# Altium footprint library capstonefootprintsREGS.PcbLib: 3 footprints
Each footprint in its own frame and in the unit in brackets; x right, y up, seen from the top. Pads: shape width x height; smd on the part's side, far side on the other; paste and mask are expansions set on the pad; w line width, h text height; cw(c..) or ccw(c..) is an arc to the next point about the centre after c.
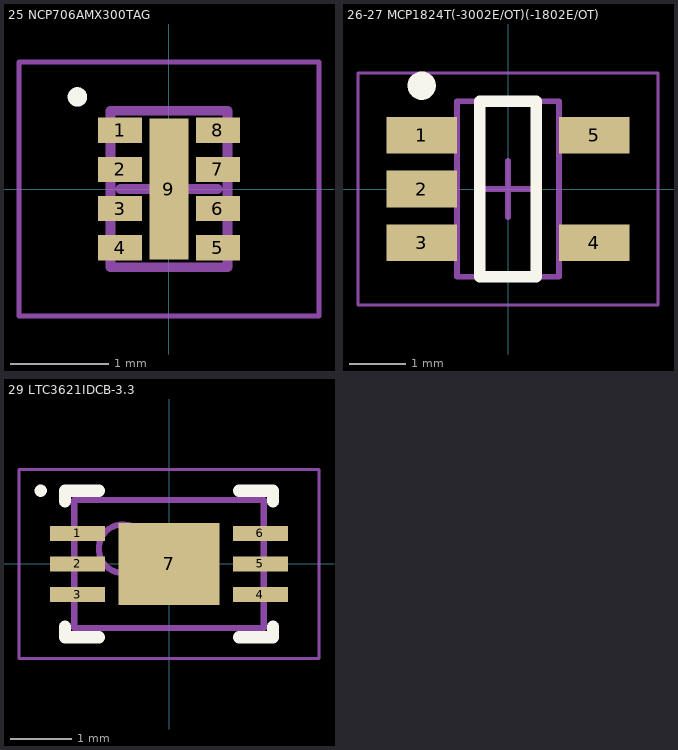
[diagram p0: the footprints below, top view; thin cyan lines are the x and y axes]

## 25 NCP706AMX300TAG [mm] "SON, 8-Leads, Body 1.60x1.20mm, Pitch 0.40mm, Thermal Pad 2.40x1.50mm, IPC Low Density"
height 0.45
pads (9):
  rect 0.45x0.26 smd mask+0.08: 1(-0.5,0.6) 2(-0.5,0.2) 3(-0.5,-0.2) 4(-0.5,-0.6) 5(0.5,-0.6) 6(0.5,-0.2) 7(0.5,0.2) 8(0.5,0.6)
  rect 0.4x1.44 smd: 9(0,0)
Top Overlay:
  circle w0.1: c-0.937,0.942 r0.05
Mechanical 13:
  lines w0.1: -0.6,-0.8 0.6,-0.8 0.6,0.8 -0.6,0.8 -0.6,-0.8
Mechanical 15:
  lines w0.05: -1.535,-1.3 1.535,-1.3 1.535,1.3 -1.535,1.3 -1.535,-1.3
  lines w0.1: -0.5,0 0.5,0 ; 0,-0.5 0,0.5
3D body: height 0.45, standoff 0, extent -0.6,-0.8 0.6,0.8

## 26-27 MCP1824T(-3002E/OT)(-1802E/OT) [mm] "SOT23, 5-Leads, Body 2.90x2.70mm, Pitch 0.95mm, IPC Low Density"
height 1.45
pads (5):
  rect 1.25x0.65 smd: 1(-1.525,0.95) 2(-1.525,0) 3(-1.525,-0.95) 4(1.525,-0.95) 5(1.525,0.95)
Top Overlay:
  circle w0.25: c-1.525,1.825 r0.125
  lines w0.2: -0.5,-1.55 0.5,-1.55 0.5,1.55 -0.5,1.55 -0.5,-1.55
Mechanical 13:
  lines w0.1: -0.9,-1.55 -0.9,1.55 0.9,1.55 0.9,-1.55 -0.9,-1.55
Mechanical 15:
  lines w0.05: -2.65,-2.05 -2.65,2.05 2.65,2.05 2.65,-2.05 -2.65,-2.05
  lines w0.1: -0.5,0 0.5,0 ; 0,-0.5 0,0.5
3D body: height 1.45, standoff 0, extent -0.9,-1.55 0.9,1.55

## 29 LTC3621IDCB-3.3 [mm] "SON, 6-Leads, Body 2.00x3.00mm, Pitch 0.50mm, Thermal Pad 1.35x1.65mm, IPC Low Density"
height 0.8
pads (7):
  rect 0.9x0.25 smd mask+0.1: 1(-1.495,0.5) 2(-1.495,0) 3(-1.495,-0.5) 4(1.495,-0.5) 5(1.495,0) 6(1.495,0.5)
  rect 1.65x1.35 smd: 7(0,0)
Top Overlay:
  circle w0.1: c-2.1,1.2 r0.05
  lines w0.2: -1.7,-1.025 -1.7,-1.2 -1.145,-1.2 ; -1.7,1.025 -1.7,1.2 -1.145,1.2 ; 1.145,-1.2 1.7,-1.2 1.7,-1.025 ; 1.145,1.2 1.7,1.2 1.7,1.025
Mechanical 13:
  circle w0.1: c-0.75,0.25 r0.4
  lines w0.1: -1.55,-1.05 1.55,-1.05 1.55,1.05 -1.55,1.05 -1.55,-1.05
Mechanical 15:
  lines w0.05: -2.455,-1.55 2.455,-1.55 2.455,1.55 -2.455,1.55 -2.455,-1.55
  lines w0.1: -0.5,0 0.5,0 ; 0,-0.5 0,0.5
3D body: height 0.8, standoff 0, extent -1.55,-1.05 1.55,1.05